# Altium footprint library CurrentController.PcbLib: 15 footprints
Each footprint in its own frame and in the unit in brackets; x right, y up, seen from the top. Pads: shape width x height; smd on the part's side, far side on the other; paste and mask are expansions set on the pad; w line width, h text height; cw(c..) or ccw(c..) is an arc to the next point about the centre after c.
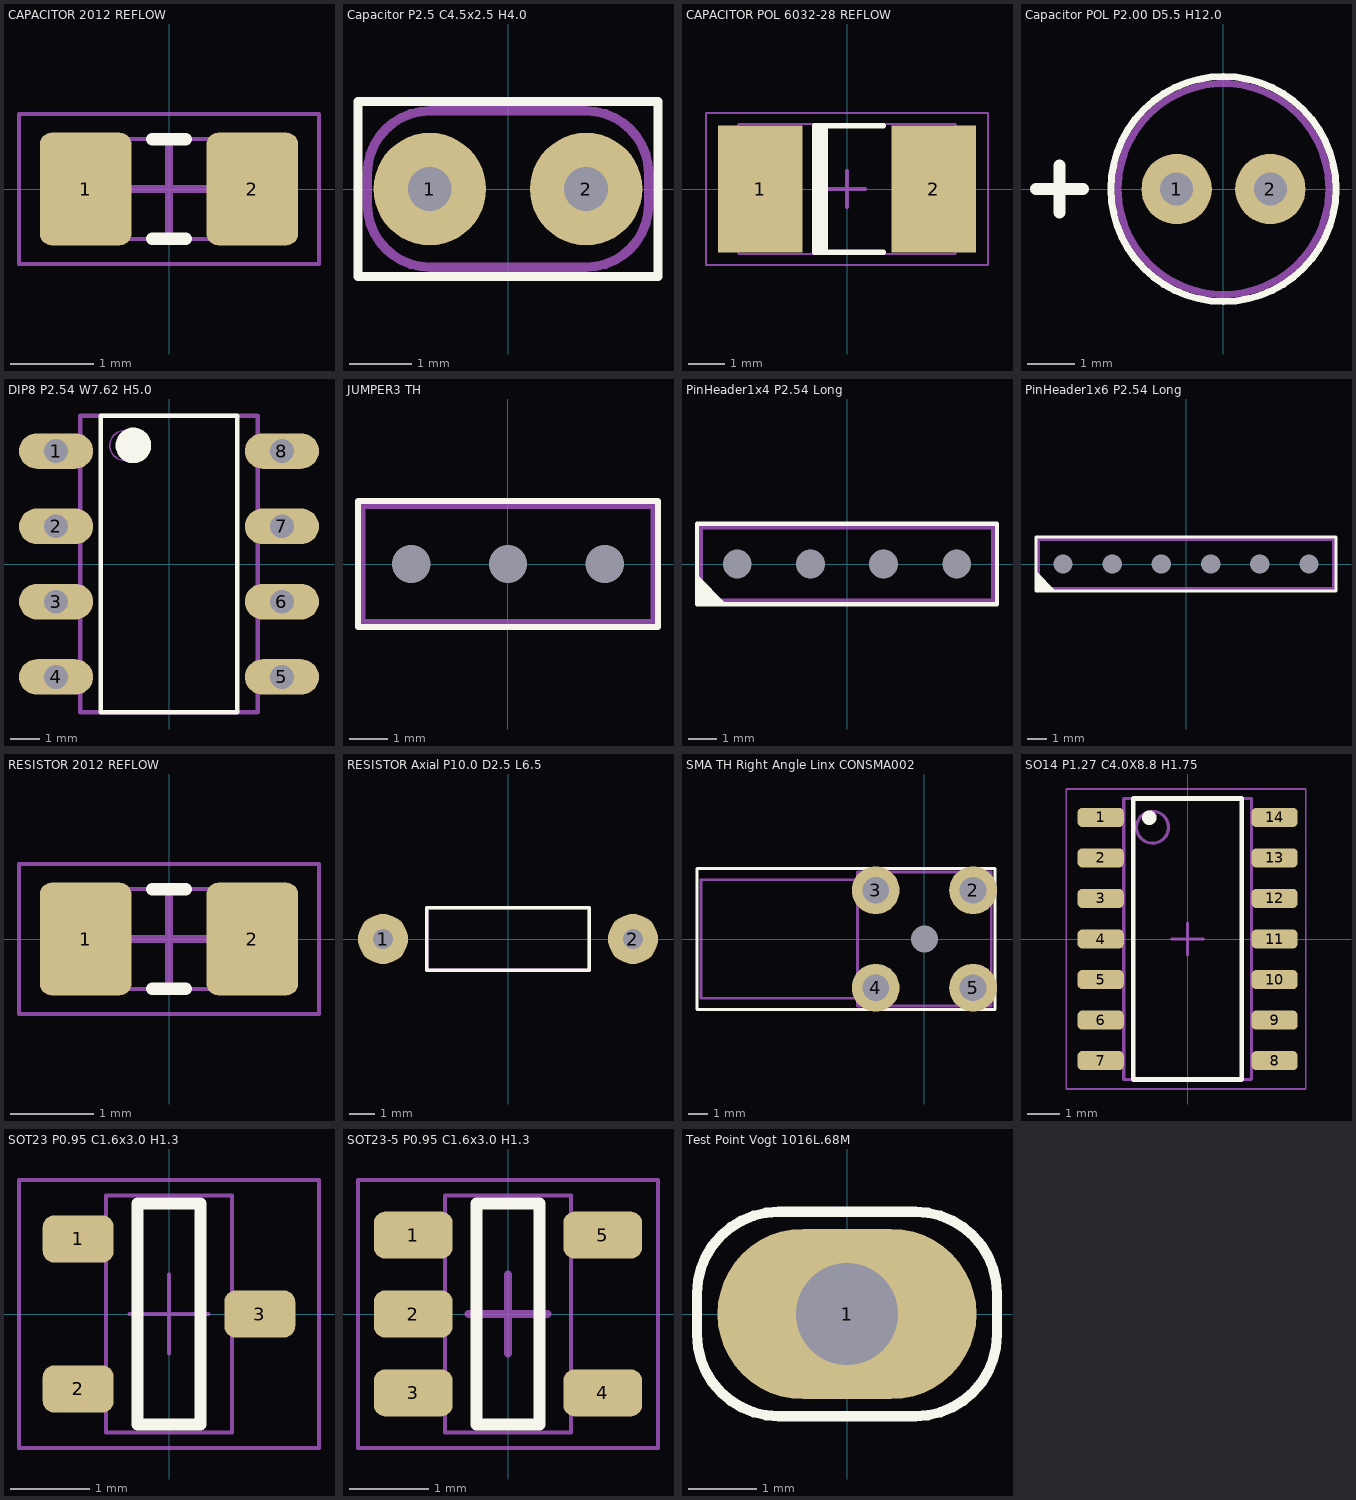
[diagram p0: the footprints below, top view; thin cyan lines are the x and y axes]

## CAPACITOR 2012 REFLOW [mm]
pads (2):
  rrect25% 1.1x1.35 smd: 1(-1,0) 2(1,0)
Top Overlay:
  lines w0.15: -0.2,-0.6 0.2,-0.6 ; -0.2,0.6 0.2,0.6
Mechanical 13:
  lines w0.05: -1,-0.6 1,-0.6 1,0.6 -1,0.6 -1,-0.6
Mechanical 15:
  lines w0.05: -1.8,-0.9 -1.8,0.9 1.8,0.9 1.8,-0.9 -1.8,-0.9
  lines w0.1: -0.5,0 0.5,0 ; 0,-0.5 0,0.5
3D body: height 1, standoff 0, extent 0.601,-0.599 0.999,0.599
3D body: height 1, standoff 0, extent -0.599,-0.599 0.599,0.599
3D body: height 1, standoff 0, extent -0.999,-0.599 -0.601,0.599

## Capacitor P2.5 C4.5x2.5 H4.0 [mm]
pads (2):
  round 1.8 hole 0.7: 1(-1.25,0) 2(1.25,0)
Top Overlay:
  lines w0.15: -2.4,-1.4 2.4,-1.4 2.4,1.4 -2.4,1.4 -2.4,-1.4
Mechanical 13:
  lines w0.15: -2.25,-0.25 ccw(c-1.25,-0.25) -1.25,-1.25 1.25,-1.25 ccw(c1.25,-0.25) 2.25,-0.25 2.25,0.25 ccw(c1.25,0.25) 1.25,1.25 -1.25,1.25 ccw(c-1.25,0.25) -2.25,0.25 -2.25,-0.25
3D body: height 0.5, standoff -2.5, extent -1.548,-0.3 -0.95,0.3
3D body: height 0.5, standoff -2.5, extent 0.952,-0.3 1.55,0.3
3D body: height 4, standoff 0.5, extent -2.249,-1.249 2.249,1.249

## CAPACITOR POL 6032-28 REFLOW [mm]
pads (2):
  rect 2.35x3.5 smd: 1(-2.4,0) 2(2.4,0)
Top Overlay:
  lines w0.15: -0.8,-1.75 -0.8,1.75 ; -0.7,-1.75 -0.7,1.75 ; -0.6,-1.75 -0.6,1.75 ; 1,-1.75 -0.9,-1.75 -0.9,1.75 1,1.75
Mechanical 13:
  lines w0.05: -3,-1.8 -3,1.8 3,1.8 3,-1.8 -3,-1.8
Mechanical 15:
  lines w0.05: -3.9,-2.1 -3.9,2.1 3.9,2.1 3.9,-2.1 -3.9,-2.1
  lines w0.1: -0.5,0 0.5,0 ; 0,-0.5 0,0.5
3D body: height 2.5, standoff 0, extent -3,-1.8 3,1.8
3D body: height 1.5, standoff 0, extent 3,-1.1 3.1,1.1
3D body: height 2.51, standoff 2.5, extent -2.5,-1.8 -1.3,1.8
3D body: height 1.5, standoff 0, extent -3.1,-1.1 -3,1.1

## Capacitor POL P2.00 D5.5 H12.0 [mm]
pads (2):
  round 1.5 hole 0.7: 1(-1,0) 2(1,0)
Top Overlay:
  circle w0.15: c0,0 r2.4
  lines w0.254: -4,0 -3,0 ; -3.5,-0.5 -3.5,0.5
Mechanical 13:
  circle w0.15: c0,0 r2.25
3D body: height 12, standoff 0, extent -2.281,-2.249 2.218,2.25
3D body: height 0, standoff -2.5, extent -1.332,-0.299 -0.732,0.299
3D body: height 0, standoff -2.5, extent 0.7,-0.299 1.3,0.299
3D body: height 12.05, standoff 0.05, extent 1.87,-0.787 2.291,0.787

## DIP8 P2.54 W7.62 H5.0 [mm]
pads (8):
  oval 2.5x1.2 hole 0.8: 1(-3.81,3.81) 2(-3.81,1.27) 3(-3.81,-1.27) 4(-3.81,-3.81) 5(3.81,-3.81) 6(3.81,-1.27) 7(3.81,1.27) 8(3.81,3.81)
Top Overlay:
  circle w0.6: c-1.2,4 r0.3
  lines w0.15: -2.3,-5 2.3,-5 2.3,5 -2.3,5 -2.3,-5
Mechanical 13:
  circle w0.05: c-1.5,4 r0.5
  lines w0.15: -3,-5 3,-5 3,5 -3,5 -3,-5
3D body: height 5.01, standoff 5, extent -1.999,3.501 -1,4.5
3D body: height 5, standoff 0.4, extent -3.075,-5.075 3.075,5.075
3D body: height 1.9, standoff -2.5, extent -3.937,3.556 -3.683,4.064
3D body: height 2.2, standoff 1.9, extent -3.937,3.302 -3.048,4.318
3D body: height 2.2, standoff 1.9, extent -3.937,0.762 -3.048,1.778
3D body: height 1.9, standoff -2.5, extent -3.937,1.016 -3.683,1.524
3D body: height 2.2, standoff 1.9, extent -3.937,-1.778 -3.048,-0.762
3D body: height 1.9, standoff -2.5, extent -3.937,-1.524 -3.683,-1.016
3D body: height 2.2, standoff 1.9, extent -3.937,-4.318 -3.048,-3.302
3D body: height 1.9, standoff -2.5, extent -3.937,-4.064 -3.683,-3.556
3D body: height 2.2, standoff 1.9, extent 3.048,-4.318 3.937,-3.302
3D body: height 1.9, standoff -2.5, extent 3.683,-4.064 3.937,-3.556
3D body: height 2.2, standoff 1.9, extent 3.048,-1.778 3.937,-0.762
3D body: height 1.9, standoff -2.5, extent 3.683,-1.524 3.937,-1.016
3D body: height 2.2, standoff 1.9, extent 3.048,0.762 3.937,1.778
3D body: height 1.9, standoff -2.5, extent 3.683,1.016 3.937,1.524
3D body: height 2.2, standoff 1.9, extent 3.048,3.302 3.937,4.318
3D body: height 1.9, standoff -2.5, extent 3.683,3.556 3.937,4.064

## JUMPER3 TH [mm]
pads (3):
  round 0 / inner round 1.8 / far side round 1.8 hole 1 unplated: 1(-2.54,0) 2(0,0) 3(2.54,0)
Top Overlay:
  lines w0.15: -3.937,-1.651 3.937,-1.651 3.937,1.651 -3.937,1.651 -3.937,-1.651
Mechanical 13:
  lines w0.15: -3.81,-1.524 -3.81,1.524 3.81,1.524 3.811,-1.524 -3.81,-1.524
3D body: height 8.5, standoff -2.5, extent -0.38,-0.38 0.38,0.38
3D body: height 8.5, standoff -2.5, extent 2.16,-0.38 2.921,0.38
3D body: height 8.5, standoff -2.5, extent -2.92,-0.38 -2.16,0.38
3D body: height 2.54, standoff 0, extent -3.885,-1.599 3.735,1.599

## PinHeader1x4 P2.54 Long [mm]
pads (4):
  round 0 / inner round 2 / far side round 2 hole 1 unplated: 1(-3.81,0) 2(-1.27,0) 3(1.27,0) 4(3.81,0)
Top Overlay:
  region: -5.207,-1.397 -5.207,-0.381 -4.191,-1.397
  lines w0.15: -5.207,-1.397 -5.207,1.397 5.207,1.397 5.207,-1.397 -5.207,-1.397
Mechanical 13:
  lines w0.15: -5.08,-1.27 5.08,-1.27 5.08,1.27 -5.08,1.27 -5.08,-1.27
3D body: height 2.54, standoff 0, extent -5.155,-1.27 5.08,1.27
3D body: height 8.5, standoff -2.5, extent -4.19,-0.38 -3.43,0.38
3D body: height 8.5, standoff -2.5, extent 3.43,-0.38 4.191,0.38
3D body: height 8.5, standoff -2.5, extent -1.65,-0.38 -0.89,0.38
3D body: height 8.5, standoff -2.5, extent 0.89,-0.38 1.651,0.38

## PinHeader1x6 P2.54 Long [mm]
pads (6):
  round 0 / inner round 2 / far side round 2 hole 1 unplated: 1(-6.35,0) 2(-3.81,0) 3(-1.27,0) 4(1.27,0) 5(3.81,0) 6(6.35,0)
Top Overlay:
  region: -7.747,-1.397 -7.747,-0.381 -6.731,-1.397
  lines w0.15: -7.747,-1.397 -7.747,1.397 7.747,1.397 7.747,-1.397 -7.747,-1.397
Mechanical 13:
  lines w0.15: -7.62,-1.27 7.62,-1.27 7.62,1.27 -7.62,1.27 -7.62,-1.27
3D body: height 2.54, standoff 0, extent -7.62,-1.27 7.62,1.27
3D body: height 8.5, standoff -2.5, extent -6.73,-0.38 -5.97,0.38
3D body: height 8.5, standoff -2.5, extent 3.43,-0.38 4.191,0.38
3D body: height 8.5, standoff -2.5, extent -4.19,-0.38 -3.43,0.38
3D body: height 8.5, standoff -2.5, extent -1.65,-0.38 -0.889,0.38
3D body: height 8.5, standoff -2.5, extent 0.89,-0.38 1.651,0.38
3D body: height 8.5, standoff -2.5, extent 5.97,-0.38 6.731,0.38

## RESISTOR 2012 REFLOW [mm]
pads (2):
  rrect25% 1.1x1.35 smd: 1(-1,0) 2(1,0)
Top Overlay:
  lines w0.15: -0.2,-0.6 0.2,-0.6 ; -0.2,0.6 0.2,0.6
Mechanical 13:
  lines w0.05: -1,-0.6 1,-0.6 1,0.6 -1,0.6 -1,-0.6
Mechanical 15:
  lines w0.05: -1.8,-0.9 1.8,-0.9 1.8,0.9 -1.8,0.9 -1.8,-0.9
  lines w0.1: -0.5,0 0.5,0 ; 0,-0.5 0,0.5
3D body: height 0.6, standoff 0, extent 0.601,-0.599 0.999,0.599
3D body: height 0.6, standoff 0, extent -0.599,-0.599 0.599,0.599
3D body: height 0.6, standoff 0, extent -0.999,-0.599 -0.601,0.599

## RESISTOR Axial P10.0 D2.5 L6.5 [mm]
pads (2):
  round 2 hole 0.8: 1(-5,0) 2(5,0)
Top Overlay:
  lines w0.15: -3.25,-1.25 3.25,-1.25 3.25,1.25 -3.25,1.25 -3.25,-1.25
Mechanical 13:
  lines w0.15: -3.25,-1.25 3.25,-1.25 3.25,1.25 -3.25,1.25 -3.25,-1.25
3D body: height 2.5, standoff 0, extent -3.25,-1.248 3.25,1.25
3D body: height 1.55, standoff 0.95, extent -5,-0.3 -3.25,0.3
3D body: height 1.55, standoff 0.95, extent 3.25,-0.3 5,0.3
3D body: height 1.25, standoff -2.5, extent 4.7,-0.3 5.3,0.3
3D body: height 1.25, standoff -2.5, extent -5.3,-0.3 -4.7,0.3

## SMA TH Right Angle Linx CONSMA002 [mm]
pads (5):
  round 0 / inner round 2.5 / far side round 2.5 hole 1.4 unplated: 1(0,0)
  round 2.5 hole 1.4: 2(2.55,2.55) 3(-2.55,2.55) 4(-2.55,-2.55) 5(2.55,-2.55)
Top Overlay:
  lines w0.152: -11.9,-3.7 -11.9,3.7 3.7,3.7 3.7,-3.7 -11.9,-3.7
Mechanical 13:
  lines w0.15: -3.499,-3.099 -11.7,-3.099 -11.7,3.1 -3.499,3.1 ; -3.5,-3.5 -3.5,3.5 3.5,3.5 3.5,-3.5 -3.5,-3.5
3D body: height 9.3, standoff 3.9, extent -11.7,-2.7 -3.5,2.7
3D body: height 10, standoff 0.4, extent -3.499,-3.499 3.499,3.499
3D body: height 0.4, standoff -2.5, extent -3.05,2.05 -2.05,3.05
3D body: height 0.4, standoff -2.5, extent 2.05,2.05 3.05,3.05
3D body: height 0.4, standoff -2.5, extent 2.05,-3.05 3.05,-2.05
3D body: height 0.4, standoff -2.5, extent -3.05,-3.05 -2.05,-2.05
3D body: height 0.4, standoff -2.5, extent -0.649,-0.65 0.65,0.65
3D body: height 9.1, standoff 4.1, extent -11.71,-2.499 -11.41,2.499
3D body: height 9.7, standoff 3.5, extent -11,-3.099 -6,3.099

## SO14 P1.27 C4.0X8.8 H1.75 [mm]
pads (14):
  rrect50% 1.45x0.6 smd: 1(-2.725,3.81) 2(-2.725,2.54) 3(-2.725,1.27) 4(-2.725,0) 5(-2.725,-1.27) 6(-2.725,-2.54) 7(-2.725,-3.81) 8(2.725,-3.81) 9(2.725,-2.54) 10(2.725,-1.27) 11(2.725,0) 12(2.725,1.27) 13(2.725,2.54) 14(2.725,3.81)
Top Overlay:
  circle w0.254: c-1.2,3.8 r0.1
  lines w0.15: -1.7,-4.4 -1.7,4.4 1.7,4.4 1.7,-4.4 -1.7,-4.4
Mechanical 13:
  circle w0.1: c-1.1,3.5 r0.5
  lines w0.1: -2,-4.4 -2,4.4 2,4.4 2,-4.4 -2,-4.4
Mechanical 15:
  lines w0.05: -3.8,-4.7 3.7,-4.7 3.7,4.7 -3.8,4.7 -3.8,-4.7
  lines w0.1: -0.5,0 0.5,0 ; 0,-0.5 0,0.5
3D body: height 1.75, standoff 0.25, extent -2,-4.4 2,4.4
3D body: height 1.76, standoff 1.75, extent -1.599,3.001 -0.601,3.999

## SOT23 P0.95 C1.6x3.0 H1.3 [mm]
pads (3):
  rrect50% 0.9x0.6 smd: 1(-1.15,0.95) 2(-1.15,-0.95) 3(1.15,0)
Top Overlay:
  lines w0.15: -0.4,-1.4 -0.4,1.4 0.4,1.4 0.4,-1.4 -0.4,-1.4
Mechanical 13:
  lines w0.05: -0.8,-1.5 -0.8,1.5 0.8,1.5 0.8,-1.5 -0.8,-1.5
Mechanical 15:
  lines w0.05: -0.5,0 0.5,0 ; 0,-0.5 0,0.5 ; -1.9,-1.7 -1.9,1.7 1.9,1.7 1.9,-1.7 -1.9,-1.7
3D body: height 1.3, standoff 0.05, extent -0.8,-1.5 0.8,1.5

## SOT23-5 P0.95 C1.6x3.0 H1.3 [mm]
pads (5):
  rrect50% 1x0.6 smd: 1(-1.2,1) 2(-1.2,0) 3(-1.2,-1) 4(1.2,-1) 5(1.2,1)
Top Overlay:
  lines w0.15: -0.4,-1.4 0.4,-1.4 0.4,1.4 -0.4,1.4 -0.4,-1.4
Mechanical 13:
  lines w0.05: -0.8,-1.5 -0.8,1.5 0.8,1.5 0.8,-1.5 -0.8,-1.5
Mechanical 15:
  lines w0.05: -1.9,-1.7 1.9,-1.7 1.9,1.7 -1.9,1.7 -1.9,-1.7
  lines w0.1: -0.5,0 0.5,0 ; 0,-0.5 0,0.5
3D body: height 1.3, standoff 0.05, extent -0.8,-1.5 0.8,1.5

## Test Point Vogt 1016L.68M [mm]
pads (1):
  oval 3.8x2.5 hole 1.5: 1(0,0)
Top Overlay:
  lines w0.15: -2.2,-0.3 ccw(c-1,-0.3) -1,-1.5 1,-1.5 ccw(c1,-0.3) 2.2,-0.3 2.2,0.3 ccw(c1,0.3) 1,1.5 -1,1.5 ccw(c-1,0.3) -2.2,0.3 -2.2,-0.3
Mechanical 13:
  lines w0.15: -1.75,-0.3 1.75,-0.3 1.75,0.3 -1.75,0.3 -1.75,-0.3
3D body: height 6, standoff 0, extent -1.75,-0.3 1.75,0.3
3D body: height 0, standoff -2.5, extent -0.7,-0.3 0.7,0.3
3D body: height 3.8, standoff 2.2, extent -0.8,-0.31 0.8,0.31